# Altium footprint library SOP.PcbLib: 64 footprints (part 2 of 4)
Each footprint in its own frame and in the unit in brackets; x right, y up, seen from the top. Pads: shape width x height; smd on the part's side, far side on the other; paste and mask are expansions set on the pad; w line width, h text height; cw(c..) or ccw(c..) is an arc to the next point about the centre after c.
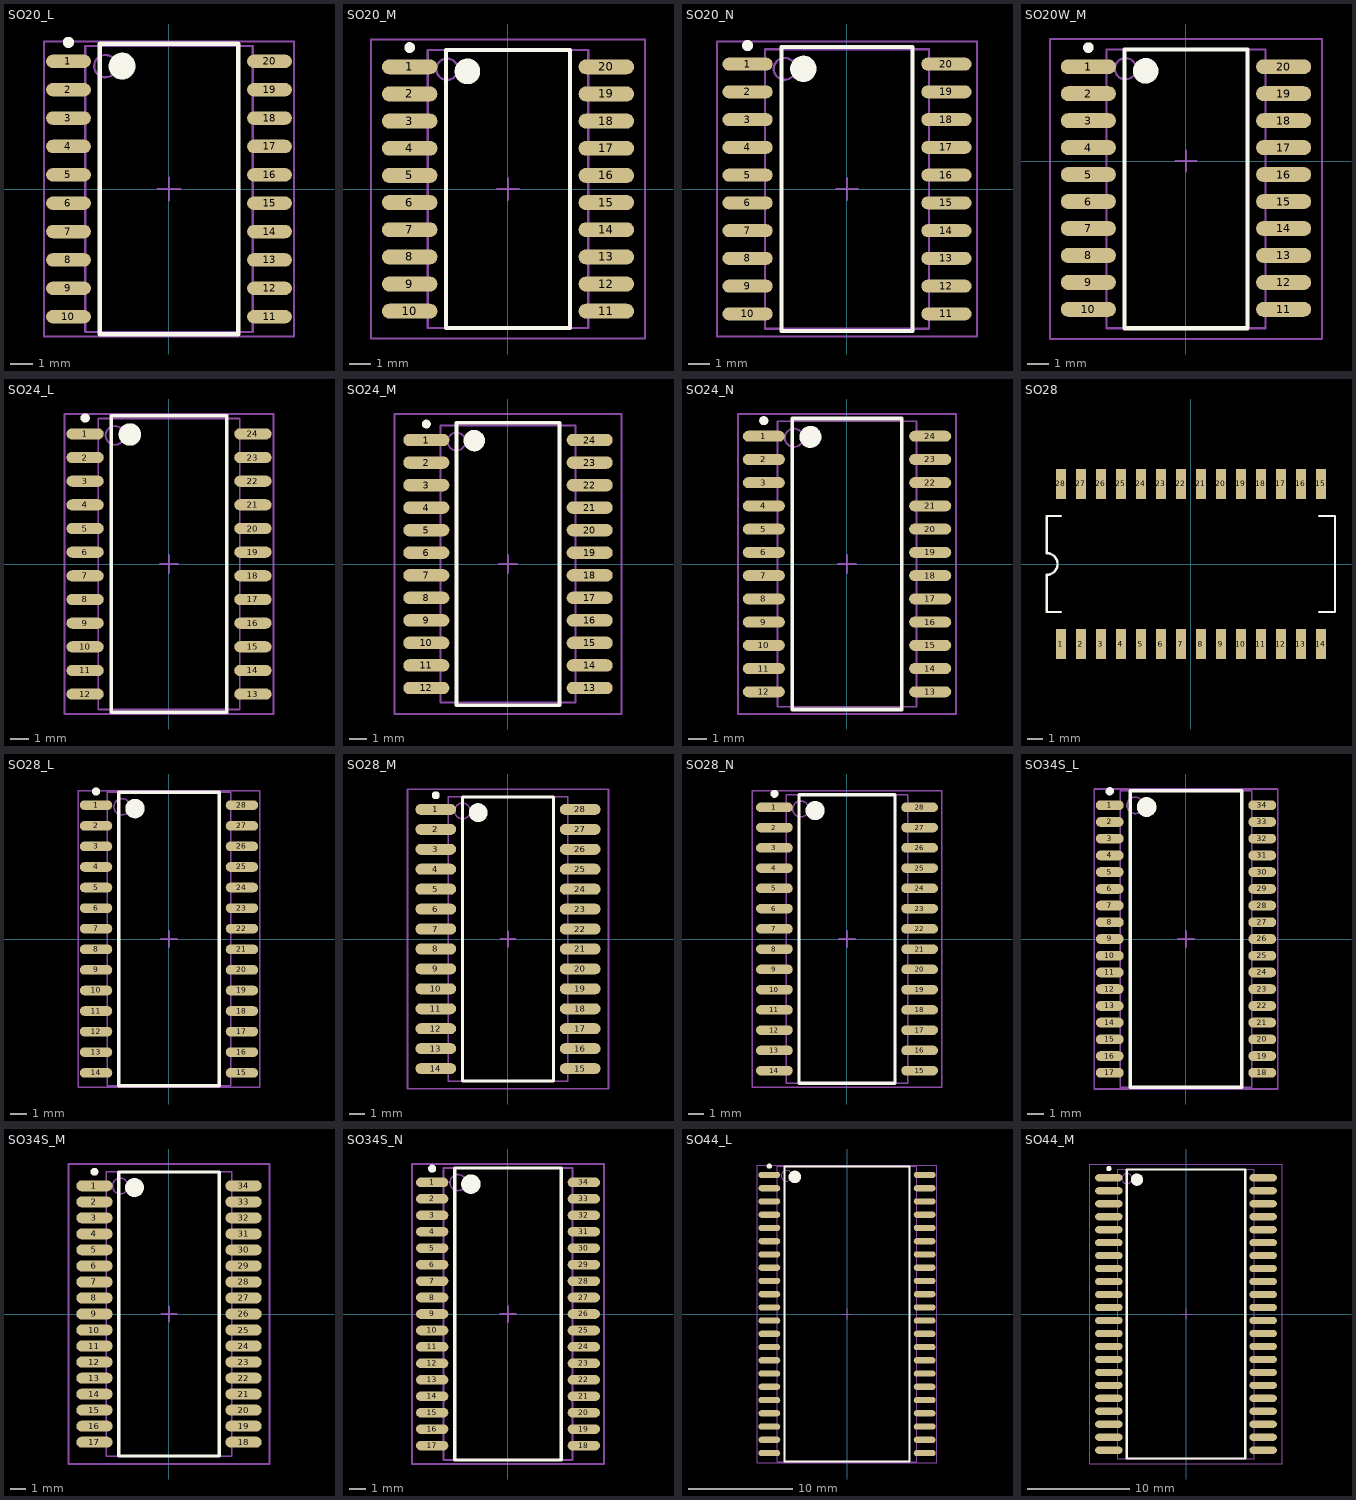
[diagram p1: the footprints below, top view; thin cyan lines are the x and y axes]

## SO20_L [mm] "20-Pin Plastic Small Outline Integrated Circuit 1.27 mm Pitch, IPC High Density"
height 2.65
pads (20):
  oval 2x0.6 smd: 1(-4.5,5.715) 2(-4.5,4.445) 3(-4.5,3.175) 4(-4.5,1.905) 5(-4.5,0.635) 6(-4.5,-0.635) 7(-4.5,-1.905) 8(-4.5,-3.175) 9(-4.5,-4.445) 10(-4.5,-5.715) 11(4.5,-5.715) 12(4.5,-4.445) 13(4.5,-3.175) 14(4.5,-1.905) 15(4.5,-0.635) 16(4.5,0.635) 17(4.5,1.905) 18(4.5,3.175) 19(4.5,4.445) 20(4.5,5.715)
Top Overlay:
  circle w0.25: c-4.5,6.565 r0.125
  circle w0.6: c-2.1,5.5 r0.3
  lines w0.2: -3.1,-6.5 -3.1,6.5 3.1,6.5 3.1,-6.5 -3.1,-6.5
Mechanical 13:
  circle w0.1: c-2.85,5.5 r0.5
  lines w0.1: -3.75,-6.4 -3.75,6.4 3.75,6.4 3.75,-6.4 -3.75,-6.4
Mechanical 15:
  lines w0.1: -0.5,0 0.5,0 ; 0,-0.5 0,0.5 ; -5.6,-6.6 -5.6,6.6 5.6,6.6 5.6,-6.6 -5.6,-6.6
3D body: height 2.65, standoff 0, extent -3.75,-6.4 3.75,6.4

## SO20_M [mm] "20-Pin Plastic Small Outline Integrated Circuit 1.27 mm Pitch, IPC Low Density"
height 2.65
pads (20):
  oval 2.6x0.7 smd: 1(-4.6,5.715) 2(-4.6,4.445) 3(-4.6,3.175) 4(-4.6,1.905) 5(-4.6,0.635) 6(-4.6,-0.635) 7(-4.6,-1.905) 8(-4.6,-3.175) 9(-4.6,-4.445) 10(-4.6,-5.715) 11(4.6,-5.715) 12(4.6,-4.445) 13(4.6,-3.175) 14(4.6,-1.905) 15(4.6,-0.635) 16(4.6,0.635) 17(4.6,1.905) 18(4.6,3.175) 19(4.6,4.445) 20(4.6,5.715)
Top Overlay:
  circle w0.6: c-1.9,5.5 r0.3
  circle w0.25: c-4.6,6.615 r0.125
  lines w0.2: -2.9,-6.5 2.9,-6.5 2.9,6.5 -2.9,6.5 -2.9,-6.5
Mechanical 13:
  circle w0.1: c-2.85,5.6 r0.5
  lines w0.1: -3.75,-6.5 3.75,-6.5 3.75,6.5 -3.75,6.5 -3.75,-6.5
Mechanical 15:
  lines w0.1: -0.5,0 0.5,0 ; 0,-0.5 0,0.5 ; -6.4,-7 6.4,-7 6.4,7 -6.4,7 -6.4,-7
3D body: height 2.65, standoff 0, extent -3.75,-6.5 3.75,6.5

## SO20_N [mm] "20-Pin Plastic Small Outline Integrated Circuit 1.27 mm Pitch, IPC Medium Density"
height 2.65
pads (20):
  oval 2.3x0.6 smd: 1(-4.55,5.715) 2(-4.55,4.445) 3(-4.55,3.175) 4(-4.55,1.905) 5(-4.55,0.635) 6(-4.55,-0.635) 7(-4.55,-1.905) 8(-4.55,-3.175) 9(-4.55,-4.445) 10(-4.55,-5.715) 11(4.55,-5.715) 12(4.55,-4.445) 13(4.55,-3.175) 14(4.55,-1.905) 15(4.55,-0.635) 16(4.55,0.635) 17(4.55,1.905) 18(4.55,3.175) 19(4.55,4.445) 20(4.55,5.715)
Top Overlay:
  circle w0.6: c-2,5.5 r0.3
  circle w0.25: c-4.55,6.565 r0.125
  lines w0.2: -3,-6.5 3,-6.5 3,6.5 -3,6.5 -3,-6.5
Mechanical 13:
  circle w0.1: c-2.85,5.5 r0.5
  lines w0.1: -3.75,-6.4 3.75,-6.4 3.75,6.4 -3.75,6.4 -3.75,-6.4
Mechanical 15:
  lines w0.1: -0.5,0 0.5,0 ; 0,-0.5 0,0.5 ; -5.95,-6.75 5.95,-6.75 5.95,6.75 -5.95,6.75 -5.95,-6.75
3D body: height 2.65, standoff 0, extent -3.75,-6.4 3.75,6.4

## SO20W_M [mm] "16-Pin Small Outline Integrated Circuit 1.27 mm Pitch, IPC Low Density"
height 2.65
pads (20):
  oval 2.6x0.7 smd: 1(-4.6,4.445) 2(-4.6,3.175) 3(-4.6,1.905) 4(-4.6,0.635) 5(-4.6,-0.635) 6(-4.6,-1.905) 7(-4.6,-3.175) 8(-4.6,-4.445) 9(-4.6,-5.715) 10(-4.6,-6.985) 11(4.6,-6.985) 12(4.6,-5.715) 13(4.6,-4.445) 14(4.6,-3.175) 15(4.6,-1.905) 16(4.6,-0.635) 17(4.6,0.635) 18(4.6,1.905) 19(4.6,3.175) 20(4.6,4.445)
Top Overlay:
  circle w0.25: c-4.6,5.345 r0.125
  circle w0.6: c-1.9,4.25 r0.3
  lines w0.2: -2.9,-7.874 -2.9,5.25 2.9,5.25 2.9,-7.874 -2.9,-7.874
Mechanical 13:
  circle w0.1: c-2.85,4.35 r0.5
  lines w0.1: -3.75,-7.874 -3.75,5.25 3.75,5.25 3.75,-7.874 -3.75,-7.874
Mechanical 15:
  lines w0.1: -0.5,0 0.5,0 ; 0,-0.5 0,0.5 ; -6.4,-8.382 -6.4,5.75 6.4,5.75 6.4,-8.382 -6.4,-8.382
3D body: height 2.65, standoff 0, extent -3.75,-7.874 3.81,5.25

## SO24_L [mm] "24-Pin Plastic Small Outline Integrated Circuit 1.27 mm Pitch, IPC High Density"
height 2.65
pads (24):
  oval 2x0.6 smd: 1(-4.5,6.985) 2(-4.5,5.715) 3(-4.5,4.445) 4(-4.5,3.175) 5(-4.5,1.905) 6(-4.5,0.635) 7(-4.5,-0.635) 8(-4.5,-1.905) 9(-4.5,-3.175) 10(-4.5,-4.445) 11(-4.5,-5.715) 12(-4.5,-6.985) 13(4.5,-6.985) 14(4.5,-5.715) 15(4.5,-4.445) 16(4.5,-3.175) 17(4.5,-1.905) 18(4.5,-0.635) 19(4.5,0.635) 20(4.5,1.905) 21(4.5,3.175) 22(4.5,4.445) 23(4.5,5.715) 24(4.5,6.985)
Top Overlay:
  circle w0.6: c-2.1,6.95 r0.3
  circle w0.25: c-4.5,7.835 r0.125
  lines w0.2: -3.1,-7.95 3.1,-7.95 3.1,7.95 -3.1,7.95 -3.1,-7.95
Mechanical 13:
  circle w0.1: c-2.9,6.9 r0.5
  lines w0.1: -3.8,-7.8 3.8,-7.8 3.8,7.8 -3.8,7.8 -3.8,-7.8
Mechanical 15:
  lines w0.1: -0.5,0 0.5,0 ; 0,-0.5 0,0.5 ; -5.6,-8.05 5.6,-8.05 5.6,8.05 -5.6,8.05 -5.6,-8.05
3D body: height 2.65, standoff 0, extent -3.8,-7.8 3.8,7.8

## SO24_M [mm] "24-Pin Plastic Small Outline Integrated Circuit 1.27 mm Pitch, IPC Low Density"
height 2.65
pads (24):
  oval 2.6x0.7 smd: 1(-4.6,6.985) 2(-4.6,5.715) 3(-4.6,4.445) 4(-4.6,3.175) 5(-4.6,1.905) 6(-4.6,0.635) 7(-4.6,-0.635) 8(-4.6,-1.905) 9(-4.6,-3.175) 10(-4.6,-4.445) 11(-4.6,-5.715) 12(-4.6,-6.985) 13(4.6,-6.985) 14(4.6,-5.715) 15(4.6,-4.445) 16(4.6,-3.175) 17(4.6,-1.905) 18(4.6,-0.635) 19(4.6,0.635) 20(4.6,1.905) 21(4.6,3.175) 22(4.6,4.445) 23(4.6,5.715) 24(4.6,6.985)
Top Overlay:
  circle w0.25: c-4.6,7.885 r0.125
  circle w0.6: c-1.9,6.95 r0.3
  lines w0.2: -2.9,-7.95 -2.9,7.95 2.9,7.95 2.9,-7.95 -2.9,-7.95
Mechanical 13:
  circle w0.1: c-2.9,6.9 r0.5
  lines w0.1: -3.8,-7.8 -3.8,7.8 3.8,7.8 3.8,-7.8 -3.8,-7.8
Mechanical 15:
  lines w0.1: -0.5,0 0.5,0 ; 0,-0.5 0,0.5 ; -6.4,-8.45 -6.4,8.45 6.4,8.45 6.4,-8.45 -6.4,-8.45
3D body: height 2.65, standoff 0, extent -3.8,-7.8 3.8,7.8

## SO24_N [mm] "24-Pin Plastic Small Outline Integrated Circuit 1.27 mm Pitch, IPC Medium Density"
height 2.65
pads (24):
  oval 2.3x0.6 smd: 1(-4.55,6.985) 2(-4.55,5.715) 3(-4.55,4.445) 4(-4.55,3.175) 5(-4.55,1.905) 6(-4.55,0.635) 7(-4.55,-0.635) 8(-4.55,-1.905) 9(-4.55,-3.175) 10(-4.55,-4.445) 11(-4.55,-5.715) 12(-4.55,-6.985) 13(4.55,-6.985) 14(4.55,-5.715) 15(4.55,-4.445) 16(4.55,-3.175) 17(4.55,-1.905) 18(4.55,-0.635) 19(4.55,0.635) 20(4.55,1.905) 21(4.55,3.175) 22(4.55,4.445) 23(4.55,5.715) 24(4.55,6.985)
Top Overlay:
  circle w0.6: c-2,6.95 r0.3
  circle w0.25: c-4.55,7.835 r0.125
  lines w0.2: -3,-7.95 3,-7.95 3,7.95 -3,7.95 -3,-7.95
Mechanical 13:
  circle w0.1: c-2.9,6.9 r0.5
  lines w0.1: -3.8,-7.8 3.8,-7.8 3.8,7.8 -3.8,7.8 -3.8,-7.8
Mechanical 15:
  lines w0.1: -0.5,0 0.5,0 ; 0,-0.5 0,0.5 ; -5.95,-8.2 5.95,-8.2 5.95,8.2 -5.95,8.2 -5.95,-8.2
3D body: height 2.65, standoff 0, extent -3.8,-7.8 3.8,7.8

## SO28 [mm]
pads (28):
  rect 0.635x1.905 smd: 1(-8.255,-5.08) 2(-6.985,-5.08) 3(-5.715,-5.08) 4(-4.445,-5.08) 5(-3.175,-5.08) 6(-1.905,-5.08) 7(-0.635,-5.08) 8(0.635,-5.08) 9(1.905,-5.08) 10(3.175,-5.08) 11(4.445,-5.08) 12(5.715,-5.08) 13(6.985,-5.08) 14(8.255,-5.08) 15(8.255,5.08) 16(6.985,5.08) 17(5.715,5.08) 18(4.445,5.08) 19(3.175,5.08) 20(1.905,5.08) 21(0.635,5.08) 22(-0.635,5.08) 23(-1.905,5.08) 24(-3.175,5.08) 25(-4.445,5.08) 26(-5.715,5.08) 27(-6.985,5.08) 28(-8.255,5.08)
Top Overlay:
  lines w0.152: -8.255,-3.048 -9.144,-3.048 -9.144,-0.684 ccw(c-9.144,0) -9.144,0.684 -9.144,3.048 -8.255,3.048 ; 8.128,3.048 9.144,3.048 9.144,-3.048 8.153,-3.048

## SO28_L [mm] "28-Pin Plastic Small Outline Integrated Circuit 1.27 mm Pitch, IPC High Density"
height 2.65
pads (28):
  oval 2x0.6 smd: 1(-4.5,8.255) 2(-4.5,6.985) 3(-4.5,5.715) 4(-4.5,4.445) 5(-4.5,3.175) 6(-4.5,1.905) 7(-4.5,0.635) 8(-4.5,-0.635) 9(-4.5,-1.905) 10(-4.5,-3.175) 11(-4.5,-4.445) 12(-4.5,-5.715) 13(-4.5,-6.985) 14(-4.5,-8.255) 15(4.5,-8.255) 16(4.5,-6.985) 17(4.5,-5.715) 18(4.5,-4.445) 19(4.5,-3.175) 20(4.5,-1.905) 21(4.5,-0.635) 22(4.5,0.635) 23(4.5,1.905) 24(4.5,3.175) 25(4.5,4.445) 26(4.5,5.715) 27(4.5,6.985) 28(4.5,8.255)
Top Overlay:
  circle w0.6: c-2.1,8.05 r0.3
  circle w0.25: c-4.5,9.105 r0.125
  lines w0.2: -3.1,-9.05 3.1,-9.05 3.1,9.05 -3.1,9.05 -3.1,-9.05
Mechanical 13:
  circle w0.1: c-2.9,8.155 r0.5
  lines w0.1: -3.8,-9.055 3.8,-9.055 3.8,9.055 -3.8,9.055 -3.8,-9.055
Mechanical 15:
  lines w0.1: -0.5,0 0.5,0 ; 0,-0.5 0,0.5 ; -5.6,-9.15 5.6,-9.15 5.6,9.15 -5.6,9.15 -5.6,-9.15
3D body: height 2.65, standoff 0, extent -3.8,-9.055 3.8,9.055

## SO28_M [mm] "28-Pin Plastic Small Outline Integrated Circuit 1.27 mm Pitch, IPC Low Density"
height 2.65
pads (28):
  oval 2.6x0.7 smd: 1(-4.6,8.255) 2(-4.6,6.985) 3(-4.6,5.715) 4(-4.6,4.445) 5(-4.6,3.175) 6(-4.6,1.905) 7(-4.6,0.635) 8(-4.6,-0.635) 9(-4.6,-1.905) 10(-4.6,-3.175) 11(-4.6,-4.445) 12(-4.6,-5.715) 13(-4.6,-6.985) 14(-4.6,-8.255) 15(4.6,-8.255) 16(4.6,-6.985) 17(4.6,-5.715) 18(4.6,-4.445) 19(4.6,-3.175) 20(4.6,-1.905) 21(4.6,-0.635) 22(4.6,0.635) 23(4.6,1.905) 24(4.6,3.175) 25(4.6,4.445) 26(4.6,5.715) 27(4.6,6.985) 28(4.6,8.255)
Top Overlay:
  circle w0.6: c-1.9,8.05 r0.3
  circle w0.25: c-4.6,9.155 r0.125
  lines w0.2: -2.9,-9.05 2.9,-9.05 2.9,9.05 -2.9,9.05 -2.9,-9.05
Mechanical 13:
  circle w0.1: c-2.9,8.155 r0.5
  lines w0.1: -3.8,-9.055 3.8,-9.055 3.8,9.055 -3.8,9.055 -3.8,-9.055
Mechanical 15:
  lines w0.1: -0.5,0 0.5,0 ; 0,-0.5 0,0.5 ; -6.4,-9.55 6.4,-9.55 6.4,9.55 -6.4,9.55 -6.4,-9.55
3D body: height 2.65, standoff 0, extent -3.8,-9.055 3.8,9.055

## SO28_N [mm] "28-Pin Plastic Small Outline Integrated Circuit 1.27 mm Pitch, IPC Medium Density"
height 2.65
pads (28):
  oval 2.3x0.6 smd: 1(-4.55,8.255) 2(-4.55,6.985) 3(-4.55,5.715) 4(-4.55,4.445) 5(-4.55,3.175) 6(-4.55,1.905) 7(-4.55,0.635) 8(-4.55,-0.635) 9(-4.55,-1.905) 10(-4.55,-3.175) 11(-4.55,-4.445) 12(-4.55,-5.715) 13(-4.55,-6.985) 14(-4.55,-8.255) 15(4.55,-8.255) 16(4.55,-6.985) 17(4.55,-5.715) 18(4.55,-4.445) 19(4.55,-3.175) 20(4.55,-1.905) 21(4.55,-0.635) 22(4.55,0.635) 23(4.55,1.905) 24(4.55,3.175) 25(4.55,4.445) 26(4.55,5.715) 27(4.55,6.985) 28(4.55,8.255)
Top Overlay:
  circle w0.25: c-4.55,9.105 r0.125
  circle w0.6: c-2,8.05 r0.3
  lines w0.2: -3,-9.05 -3,9.05 3,9.05 3,-9.05 -3,-9.05
Mechanical 13:
  circle w0.1: c-2.9,8.155 r0.5
  lines w0.1: -3.8,-9.055 -3.8,9.055 3.8,9.055 3.8,-9.055 -3.8,-9.055
Mechanical 15:
  lines w0.1: -0.5,0 0.5,0 ; 0,-0.5 0,0.5 ; -5.95,-9.3 -5.95,9.3 5.95,9.3 5.95,-9.3 -5.95,-9.3
3D body: height 2.65, standoff 0, extent -3.8,-9.055 3.8,9.055

## SO34S_L [mm] "34-Pin Small Outline Package 1.02 mm Pitch, IPC High Density"
height 2.64
pads (34):
  oval 1.7x0.6 smd: 1(-4.65,8.16) 2(-4.65,7.14) 3(-4.65,6.12) 4(-4.65,5.1) 5(-4.65,4.08) 6(-4.65,3.06) 7(-4.65,2.04) 8(-4.65,1.02) 9(-4.65,0) 10(-4.65,-1.02) 11(-4.65,-2.04) 12(-4.65,-3.06) 13(-4.65,-4.08) 14(-4.65,-5.1) 15(-4.65,-6.12) 16(-4.65,-7.14) 17(-4.65,-8.16) 18(4.65,-8.16) 19(4.65,-7.14) 20(4.65,-6.12) 21(4.65,-5.1) 22(4.65,-4.08) 23(4.65,-3.06) 24(4.65,-2.04) 25(4.65,-1.02) 26(4.65,0) 27(4.65,1.02) 28(4.65,2.04) 29(4.65,3.06) 30(4.65,4.08) 31(4.65,5.1) 32(4.65,6.12) 33(4.65,7.14) 34(4.65,8.16)
Top Overlay:
  circle w0.6: c-2.4,8.05 r0.3
  circle w0.25: c-4.65,9.01 r0.125
  lines w0.2: -3.4,-9.05 3.4,-9.05 3.4,9.05 -3.4,9.05 -3.4,-9.05
Mechanical 13:
  circle w0.1: c-3.1,8.15 r0.5
  lines w0.1: -4,-9.05 4,-9.05 4,9.05 -4,9.05 -4,-9.05
Mechanical 15:
  lines w0.1: -0.5,0 0.5,0 ; 0,-0.5 0,0.5 ; -5.6,-9.15 5.6,-9.15 5.6,9.15 -5.6,9.15 -5.6,-9.15
3D body: height 2.64, standoff 0, extent -4,-9.05 4,9.05

## SO34S_M [mm] "34-Pin Small Outline Package 1.02 mm Pitch, IPC Low Density"
height 2.64
pads (34):
  oval 2.3x0.7 smd: 1(-4.75,8.16) 2(-4.75,7.14) 3(-4.75,6.12) 4(-4.75,5.1) 5(-4.75,4.08) 6(-4.75,3.06) 7(-4.75,2.04) 8(-4.75,1.02) 9(-4.75,0) 10(-4.75,-1.02) 11(-4.75,-2.04) 12(-4.75,-3.06) 13(-4.75,-4.08) 14(-4.75,-5.1) 15(-4.75,-6.12) 16(-4.75,-7.14) 17(-4.75,-8.16) 18(4.75,-8.16) 19(4.75,-7.14) 20(4.75,-6.12) 21(4.75,-5.1) 22(4.75,-4.08) 23(4.75,-3.06) 24(4.75,-2.04) 25(4.75,-1.02) 26(4.75,0) 27(4.75,1.02) 28(4.75,2.04) 29(4.75,3.06) 30(4.75,4.08) 31(4.75,5.1) 32(4.75,6.12) 33(4.75,7.14) 34(4.75,8.16)
Top Overlay:
  circle w0.25: c-4.75,9.06 r0.125
  circle w0.6: c-2.2,8.05 r0.3
  lines w0.2: -3.2,-9.05 -3.2,9.05 3.2,9.05 3.2,-9.05 -3.2,-9.05
Mechanical 13:
  circle w0.1: c-3.1,8.15 r0.5
  lines w0.1: -4,-9.05 -4,9.05 4,9.05 4,-9.05 -4,-9.05
Mechanical 15:
  lines w0.1: -0.5,0 0.5,0 ; 0,-0.5 0,0.5 ; -6.4,-9.55 -6.4,9.55 6.4,9.55 6.4,-9.55 -6.4,-9.55
3D body: height 2.64, standoff 0, extent -4,-9.05 4,9.05

## SO34S_N [mm] "34-Pin Small Outline Package 1.02 mm Pitch, IPC Medium Density"
height 2.64
pads (34):
  oval 2x0.6 smd: 1(-4.7,8.16) 2(-4.7,7.14) 3(-4.7,6.12) 4(-4.7,5.1) 5(-4.7,4.08) 6(-4.7,3.06) 7(-4.7,2.04) 8(-4.7,1.02) 9(-4.7,0) 10(-4.7,-1.02) 11(-4.7,-2.04) 12(-4.7,-3.06) 13(-4.7,-4.08) 14(-4.7,-5.1) 15(-4.7,-6.12) 16(-4.7,-7.14) 17(-4.7,-8.16) 18(4.7,-8.16) 19(4.7,-7.14) 20(4.7,-6.12) 21(4.7,-5.1) 22(4.7,-4.08) 23(4.7,-3.06) 24(4.7,-2.04) 25(4.7,-1.02) 26(4.7,0) 27(4.7,1.02) 28(4.7,2.04) 29(4.7,3.06) 30(4.7,4.08) 31(4.7,5.1) 32(4.7,6.12) 33(4.7,7.14) 34(4.7,8.16)
Top Overlay:
  circle w0.6: c-2.3,8.05 r0.3
  circle w0.25: c-4.7,9.01 r0.125
  lines w0.2: -3.3,-9.05 3.3,-9.05 3.3,9.05 -3.3,9.05 -3.3,-9.05
Mechanical 13:
  circle w0.1: c-3.1,8.15 r0.5
  lines w0.1: -4,-9.05 4,-9.05 4,9.05 -4,9.05 -4,-9.05
Mechanical 15:
  lines w0.1: -0.5,0 0.5,0 ; 0,-0.5 0,0.5 ; -5.95,-9.3 5.95,-9.3 5.95,9.3 -5.95,9.3 -5.95,-9.3
3D body: height 2.64, standoff 0, extent -4,-9.05 4,9.05

## SO44_L [mm] "44-Pin Plastic Small Outline Package 1.27 mm Pitch, IPC High Density"
pads (44):
  oval 2.1x0.6 smd: 1(-7.45,13.335) 2(-7.45,12.065) 3(-7.45,10.795) 4(-7.45,9.525) 5(-7.45,8.255) 6(-7.45,6.985) 7(-7.45,5.715) 8(-7.45,4.445) 9(-7.45,3.175) 10(-7.45,1.905) 11(-7.45,0.635) 12(-7.45,-0.635) 13(-7.45,-1.905) 14(-7.45,-3.175) 15(-7.45,-4.445) 16(-7.45,-5.715) 17(-7.45,-6.985) 18(-7.45,-8.255) 19(-7.45,-9.525) 20(-7.45,-10.795) 21(-7.45,-12.065) 22(-7.45,-13.335) 23(7.45,-13.335) 24(7.45,-12.065) 25(7.45,-10.795) 26(7.45,-9.525) 27(7.45,-8.255) 28(7.45,-6.985) 29(7.45,-5.715) 30(7.45,-4.445) 31(7.45,-3.175) 32(7.45,-1.905) 33(7.45,-0.635) 34(7.45,0.635) 35(7.45,1.905) 36(7.45,3.175) 37(7.45,4.445) 38(7.45,5.715) 39(7.45,6.985) 40(7.45,8.255) 41(7.45,9.525) 42(7.45,10.795) 43(7.45,12.065) 44(7.45,13.335)
Top Overlay:
  circle w0.25: c-7.45,14.185 r0.125
  circle w0.6: c-5,13.15 r0.3
  lines w0.2: -6,-14.15 -6,14.15 6,14.15 6,-14.15 -6,-14.15
Mechanical 13:
  circle w0.1: c-5.8,13.25 r0.5
  lines w0.1: -6.7,-14.15 -6.7,14.15 6.7,14.15 6.7,-14.15 -6.7,-14.15
Mechanical 15:
  lines w0.1: -0.5,0 0.5,0 ; 0,-0.5 0,0.5 ; -8.6,-14.25 -8.6,14.25 8.6,14.25 8.6,-14.25 -8.6,-14.25
3D body: height 0, standoff 0, extent -6.7,-14.15 6.7,14.15

## SO44_M [mm] "44-Pin Plastic Small Outline Package 1.27 mm Pitch, IPC Low Density"
pads (44):
  oval 2.7x0.7 smd: 1(-7.55,13.335) 2(-7.55,12.065) 3(-7.55,10.795) 4(-7.55,9.525) 5(-7.55,8.255) 6(-7.55,6.985) 7(-7.55,5.715) 8(-7.55,4.445) 9(-7.55,3.175) 10(-7.55,1.905) 11(-7.55,0.635) 12(-7.55,-0.635) 13(-7.55,-1.905) 14(-7.55,-3.175) 15(-7.55,-4.445) 16(-7.55,-5.715) 17(-7.55,-6.985) 18(-7.55,-8.255) 19(-7.55,-9.525) 20(-7.55,-10.795) 21(-7.55,-12.065) 22(-7.55,-13.335) 23(7.55,-13.335) 24(7.55,-12.065) 25(7.55,-10.795) 26(7.55,-9.525) 27(7.55,-8.255) 28(7.55,-6.985) 29(7.55,-5.715) 30(7.55,-4.445) 31(7.55,-3.175) 32(7.55,-1.905) 33(7.55,-0.635) 34(7.55,0.635) 35(7.55,1.905) 36(7.55,3.175) 37(7.55,4.445) 38(7.55,5.715) 39(7.55,6.985) 40(7.55,8.255) 41(7.55,9.525) 42(7.55,10.795) 43(7.55,12.065) 44(7.55,13.335)
Top Overlay:
  circle w0.25: c-7.55,14.235 r0.125
  circle w0.6: c-4.8,13.15 r0.3
  lines w0.2: -5.8,-14.15 -5.8,14.15 5.8,14.15 5.8,-14.15 -5.8,-14.15
Mechanical 13:
  circle w0.1: c-5.8,13.25 r0.5
  lines w0.1: -6.7,-14.15 -6.7,14.15 6.7,14.15 6.7,-14.15 -6.7,-14.15
Mechanical 15:
  lines w0.1: -0.5,0 0.5,0 ; 0,-0.5 0,0.5 ; -9.4,-14.65 -9.4,14.65 9.4,14.65 9.4,-14.65 -9.4,-14.65
3D body: height 0, standoff 0, extent -6.7,-14.15 6.7,14.15